# EAGLE library part KMDLX-6S-BS (library Pygmy)
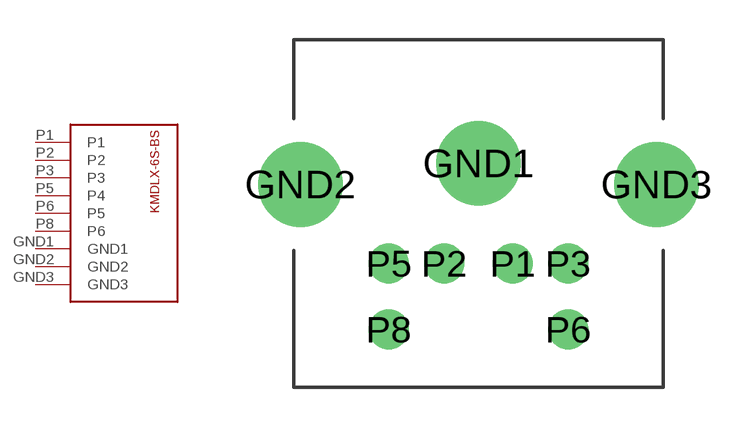
[diagram p71: symbol with the pads of KMDLX-6S-BS; footprint KMDLX-6S-BS]

Designator prefix -

## KMDLX-6S-BS  [KMDLX-6S-BS]
GND1  GND1
GND2  GND2
GND3  GND3
P1  P1
P2  P2
P3  P3
P5  P4
P6  P5
P8  P6

## Footprint KMDLX-6S-BS (pad centres in mm)
drill 2.2: GND1 0,-4.7; GND2 -6.75,-5.5; GND3 6.75,-5.5
drill 1: P1 1.3,-8.5; P2 -1.3,-8.5; P3 3.4,-8.5; P5 -3.4,-8.5; P6 3.4,-11; P8 -3.4,-11